# Altium integrated library WE-HCI_rev15b.intlib: 126 symbols (part 2 of 2)
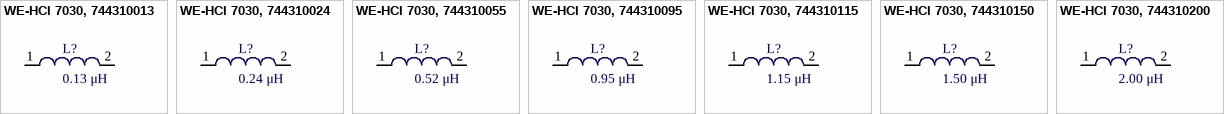
[diagram p12: symbols WE-HCI 7030, 744310013 to WE-HCI 7030, 744310200]

## WE-HCI 7030, 744310095
designator L?, comment 0.95 μH
WE-HCI SMD Flat Wire High Current Inductor, Inductance = 0.95 μH; partNo: 744310095; Manufacturer: Wurth Elektronik; Inductance: 0.95 μH; ComponentLink1Description: Manufacturer; ComponentLink1URL: http://www.we-online.de; Created by: Baojun Chen; Created Date: Nov.2015; ComponentLink2Description: Datasheet; ComponentLink2URL: http://katalog.we-online.de/pbs/datasheet/744310095.pdf
footprint WE-HCI 7030
pins: 1, 2

## WE-HCI 7030, 744310115
designator L?, comment 1.15 μH
WE-HCI SMD Flat Wire High Current Inductor, Inductance = 1.15 μH; partNo: 744310115; Manufacturer: Wurth Elektronik; Inductance: 1.15 μH; ComponentLink1Description: Manufacturer; ComponentLink1URL: http://www.we-online.de; Created by: Baojun Chen; Created Date: Nov.2015; ComponentLink2Description: Datasheet; ComponentLink2URL: http://katalog.we-online.de/pbs/datasheet/744310115.pdf
footprint WE-HCI 7030
pins: 1, 2

## WE-HCI 7030, 744310150
designator L?, comment 1.50 μH
WE-HCI SMD Flat Wire High Current Inductor, Inductance = 1.50 μH; partNo: 744310150; Manufacturer: Wurth Elektronik; Inductance: 1.50 μH; ComponentLink1Description: Manufacturer; ComponentLink1URL: http://www.we-online.de; Created by: Baojun Chen; Created Date: Nov.2015; ComponentLink2Description: Datasheet; ComponentLink2URL: http://katalog.we-online.de/pbs/datasheet/744310150.pdf
footprint WE-HCI 7030
pins: 1, 2

## WE-HCI 7030, 744310200
designator L?, comment 2.00 μH
WE-HCI SMD Flat Wire High Current Inductor, Inductance = 2.00 μH; partNo: 744310200; Manufacturer: Wurth Elektronik; Inductance: 2.00 μH; ComponentLink1Description: Manufacturer; ComponentLink1URL: http://www.we-online.de; Created by: Baojun Chen; Created Date: Nov.2015; ComponentLink2Description: Datasheet; ComponentLink2URL: http://katalog.we-online.de/pbs/datasheet/744310200.pdf
footprint WE-HCI 7030
pins: 1, 2


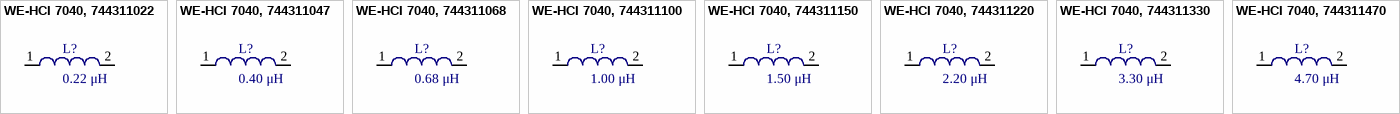
[diagram p10: symbols WE-HCI 7040, 744311022 to WE-HCI 7040, 744311470]

## WE-HCI 7040, 744311022
designator L?, comment 0.22 μH
WE-HCI SMD Flat Wire High Current Inductor, Inductance = 0.22 μH; partNo: 744311022; Manufacturer: Wurth Elektronik; Inductance: 0.22 μH; ComponentLink1Description: Manufacturer; ComponentLink1URL: http://www.we-online.de; Created by: Baojun Chen; Created Date: Nov.2015; ComponentLink2Description: Datasheet; ComponentLink2URL: http://katalog.we-online.de/pbs/datasheet/744311022.pdf
footprint WE-HCI 7040
pins: 1, 2

## WE-HCI 7040, 744311047
designator L?, comment 0.40 μH
WE-HCI SMD Flat Wire High Current Inductor, Inductance = 0.40 μH; partNo: 744311047; Manufacturer: Wurth Elektronik; Inductance: 0.40 μH; ComponentLink1Description: Manufacturer; ComponentLink1URL: http://www.we-online.de; Created by: Baojun Chen; Created Date: Nov.2015; ComponentLink2Description: Datasheet; ComponentLink2URL: http://katalog.we-online.de/pbs/datasheet/744311047.pdf
footprint WE-HCI 7040
pins: 1, 2

## WE-HCI 7040, 744311068
designator L?, comment 0.68 μH
WE-HCI SMD Flat Wire High Current Inductor, Inductance = 0.68 μH; partNo: 744311068; Manufacturer: Wurth Elektronik; Inductance: 0.68 μH; ComponentLink1Description: Manufacturer; ComponentLink1URL: http://www.we-online.de; Created by: Baojun Chen; Created Date: Nov.2015; ComponentLink2Description: Datasheet; ComponentLink2URL: http://katalog.we-online.de/pbs/datasheet/744311068.pdf
footprint WE-HCI 7040
pins: 1, 2

## WE-HCI 7040, 744311100
designator L?, comment 1.00 μH
WE-HCI SMD Flat Wire High Current Inductor, Inductance = 1.00 μH; partNo: 744311100; Manufacturer: Wurth Elektronik; Inductance: 1.00 μH; ComponentLink1Description: Manufacturer; ComponentLink1URL: http://www.we-online.de; Created by: Baojun Chen; Created Date: Nov.2015; ComponentLink2Description: Datasheet; ComponentLink2URL: http://katalog.we-online.de/pbs/datasheet/744311100.pdf
footprint WE-HCI 7040
pins: 1, 2

## WE-HCI 7040, 744311150
designator L?, comment 1.50 μH
WE-HCI SMD Flat Wire High Current Inductor, Inductance = 1.50 μH; partNo: 744311150; Manufacturer: Wurth Elektronik; Inductance: 1.50 μH; ComponentLink1Description: Manufacturer; ComponentLink1URL: http://www.we-online.de; Created by: Baojun Chen; Created Date: Nov.2015; ComponentLink2Description: Datasheet; ComponentLink2URL: http://katalog.we-online.de/pbs/datasheet/744311150.pdf
footprint WE-HCI 7040
pins: 1, 2

## WE-HCI 7040, 744311220
designator L?, comment 2.20 μH
WE-HCI SMD Flat Wire High Current Inductor, Inductance = 2.20 μH; partNo: 744311220; Manufacturer: Wurth Elektronik; Inductance: 2.20 μH; ComponentLink1Description: Manufacturer; ComponentLink1URL: http://www.we-online.de; Created by: Baojun Chen; Created Date: Nov.2015; ComponentLink2Description: Datasheet; ComponentLink2URL: http://katalog.we-online.de/pbs/datasheet/744311220.pdf
footprint WE-HCI 7040
pins: 1, 2

## WE-HCI 7040, 744311330
designator L?, comment 3.30 μH
WE-HCI SMD Flat Wire High Current Inductor, Inductance = 3.30 μH; partNo: 744311330; Manufacturer: Wurth Elektronik; Inductance: 3.30 μH; ComponentLink1Description: Manufacturer; ComponentLink1URL: http://www.we-online.de; Created by: Baojun Chen; Created Date: Nov.2015; ComponentLink2Description: Datasheet; ComponentLink2URL: http://katalog.we-online.de/pbs/datasheet/744311330.pdf
footprint WE-HCI 7040
pins: 1, 2

## WE-HCI 7040, 744311470
designator L?, comment 4.70 μH
WE-HCI SMD Flat Wire High Current Inductor, Inductance = 4.70 μH; partNo: 744311470; Manufacturer: Wurth Elektronik; Inductance: 4.70 μH; ComponentLink1Description: Manufacturer; ComponentLink1URL: http://www.we-online.de; Created by: Baojun Chen; Created Date: Nov.2015; ComponentLink2Description: Datasheet; ComponentLink2URL: http://katalog.we-online.de/pbs/datasheet/744311470.pdf
footprint WE-HCI 7040
pins: 1, 2


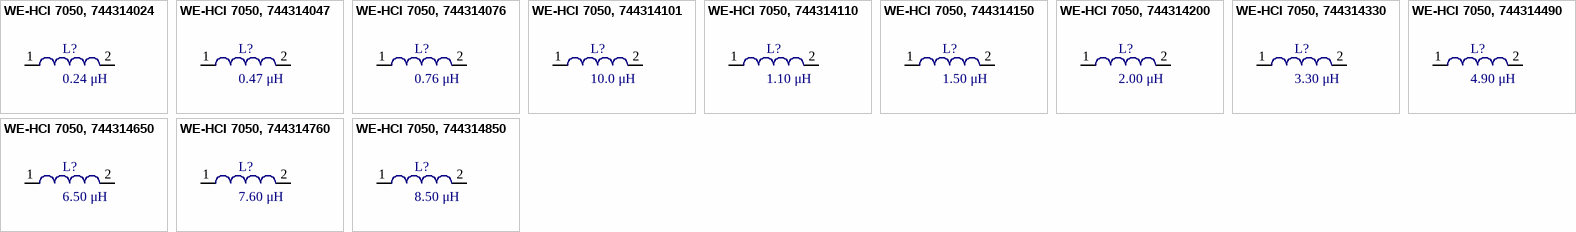
[diagram p11: symbols WE-HCI 7050, 744314024 to WE-HCI 7050, 744314850]

## WE-HCI 7050, 744314024
designator L?, comment 0.24 μH
WE-HCI SMD Flat Wire High Current Inductor, Inductance = 0.24 μH; partNo: 744314024; Manufacturer: Wurth Elektronik; Inductance: 0.24 μH; ComponentLink1Description: Manufacturer; ComponentLink1URL: http://www.we-online.de; Created by: Baojun Chen; Created Date: Nov.2015; ComponentLink2Description: Datasheet; ComponentLink2URL: http://katalog.we-online.de/pbs/datasheet/744314024.pdf
footprint WE-HCI 7050
pins: 1, 2

## WE-HCI 7050, 744314047
designator L?, comment 0.47 μH
WE-HCI SMD Flat Wire High Current Inductor, Inductance = 0.47 μH; partNo: 744314047; Manufacturer: Wurth Elektronik; Inductance: 0.47 μH; ComponentLink1Description: Manufacturer; ComponentLink1URL: http://www.we-online.de; Created by: Baojun Chen; Created Date: Nov.2015; ComponentLink2Description: Datasheet; ComponentLink2URL: http://katalog.we-online.de/pbs/datasheet/744314047.pdf
footprint WE-HCI 7050
pins: 1, 2

## WE-HCI 7050, 744314076
designator L?, comment 0.76 μH
WE-HCI SMD Flat Wire High Current Inductor, Inductance = 0.76 μH; partNo: 744314076; Manufacturer: Wurth Elektronik; Inductance: 0.76 μH; ComponentLink1Description: Manufacturer; ComponentLink1URL: http://www.we-online.de; Created by: Baojun Chen; Created Date: Nov.2015; ComponentLink2Description: Datasheet; ComponentLink2URL: http://katalog.we-online.de/pbs/datasheet/744314076.pdf
footprint WE-HCI 7050
pins: 1, 2

## WE-HCI 7050, 744314101
designator L?, comment 10.0 μH
WE-HCI SMD Flat Wire High Current Inductor, Inductance = 10.0 μH; partNo: 744314101; Manufacturer: Wurth Elektronik; Inductance: 10.0 μH; ComponentLink1Description: Manufacturer; ComponentLink1URL: http://www.we-online.de; Created by: Baojun Chen; Created Date: Nov.2015; ComponentLink2Description: Datasheet; ComponentLink2URL: http://katalog.we-online.de/pbs/datasheet/744314101.pdf
footprint WE-HCI 7050
pins: 1, 2

## WE-HCI 7050, 744314110
designator L?, comment 1.10 μH
WE-HCI SMD Flat Wire High Current Inductor, Inductance = 1.10 μH; partNo: 744314110; Manufacturer: Wurth Elektronik; Inductance: 1.10 μH; ComponentLink1Description: Manufacturer; ComponentLink1URL: http://www.we-online.de; Created by: Baojun Chen; Created Date: Nov.2015; ComponentLink2Description: Datasheet; ComponentLink2URL: http://katalog.we-online.de/pbs/datasheet/744314110.pdf
footprint WE-HCI 7050
pins: 1, 2

## WE-HCI 7050, 744314150
designator L?, comment 1.50 μH
WE-HCI SMD Flat Wire High Current Inductor, Inductance = 1.50 μH; partNo: 744314150; Manufacturer: Wurth Elektronik; Inductance: 1.50 μH; ComponentLink1Description: Manufacturer; ComponentLink1URL: http://www.we-online.de; Created by: Baojun Chen; Created Date: Nov.2015; ComponentLink2Description: Datasheet; ComponentLink2URL: http://katalog.we-online.de/pbs/datasheet/744314150.pdf
footprint WE-HCI 7050
pins: 1, 2

## WE-HCI 7050, 744314200
designator L?, comment 2.00 μH
WE-HCI SMD Flat Wire High Current Inductor, Inductance = 2.00 μH; partNo: 744314200; Manufacturer: Wurth Elektronik; Inductance: 2.00 μH; ComponentLink1Description: Manufacturer; ComponentLink1URL: http://www.we-online.de; Created by: Baojun Chen; Created Date: Nov.2015; ComponentLink2Description: Datasheet; ComponentLink2URL: http://katalog.we-online.de/pbs/datasheet/744314200.pdf
footprint WE-HCI 7050
pins: 1, 2

## WE-HCI 7050, 744314330
designator L?, comment 3.30 μH
WE-HCI SMD Flat Wire High Current Inductor, Inductance = 3.30 μH; partNo: 744314330; Manufacturer: Wurth Elektronik; Inductance: 3.30 μH; ComponentLink1Description: Manufacturer; ComponentLink1URL: http://www.we-online.de; Created by: Baojun Chen; Created Date: Nov.2015; ComponentLink2Description: Datasheet; ComponentLink2URL: http://katalog.we-online.de/pbs/datasheet/744314330.pdf
footprint WE-HCI 7050
pins: 1, 2

## WE-HCI 7050, 744314490
designator L?, comment 4.90 μH
WE-HCI SMD Flat Wire High Current Inductor, Inductance = 4.90 μH; partNo: 744314490; Manufacturer: Wurth Elektronik; Inductance: 4.90 μH; ComponentLink1Description: Manufacturer; ComponentLink1URL: http://www.we-online.de; Created by: Baojun Chen; Created Date: Nov.2015; ComponentLink2Description: Datasheet; ComponentLink2URL: http://katalog.we-online.de/pbs/datasheet/744314490.pdf
footprint WE-HCI 7050
pins: 1, 2

## WE-HCI 7050, 744314650
designator L?, comment 6.50 μH
WE-HCI SMD Flat Wire High Current Inductor, Inductance = 6.50 μH; partNo: 744314650; Manufacturer: Wurth Elektronik; Inductance: 6.50 μH; ComponentLink1Description: Manufacturer; ComponentLink1URL: http://www.we-online.de; Created by: Baojun Chen; Created Date: Nov.2015; ComponentLink2Description: Datasheet; ComponentLink2URL: http://katalog.we-online.de/pbs/datasheet/744314650.pdf
footprint WE-HCI 7050
pins: 1, 2

## WE-HCI 7050, 744314760
designator L?, comment 7.60 μH
WE-HCI SMD Flat Wire High Current Inductor, Inductance = 7.60 μH; partNo: 744314760; Manufacturer: Wurth Elektronik; Inductance: 7.60 μH; ComponentLink1Description: Manufacturer; ComponentLink1URL: http://www.we-online.de; Created by: Baojun Chen; Created Date: Nov.2015; ComponentLink2Description: Datasheet; ComponentLink2URL: http://katalog.we-online.de/pbs/datasheet/744314760.pdf
footprint WE-HCI 7050
pins: 1, 2

## WE-HCI 7050, 744314850
designator L?, comment 8.50 μH
WE-HCI SMD Flat Wire High Current Inductor, Inductance = 8.50 μH; partNo: 744314850; Manufacturer: Wurth Elektronik; Inductance: 8.50 μH; ComponentLink1Description: Manufacturer; ComponentLink1URL: http://www.we-online.de; Created by: Baojun Chen; Created Date: Nov.2015; ComponentLink2Description: Datasheet; ComponentLink2URL: http://katalog.we-online.de/pbs/datasheet/744314850.pdf
footprint WE-HCI 7050
pins: 1, 2